# EAGLE library part PZ254V-12-12P_LCSC (library lcsc_parts)
Description: 2 2.54mm Pin Header 2.5mm Through Hole 6mm 12P -40℃~+105℃ 3mm Black 2x6P 2.54mm Through Hole,P=2.54mm Headers, Male Pins RoHS Manufacturer: XFCN MPN: PZ254V-12-12P LCSC Part: C492423 Category: Headers, Male Pins Datasheet: https://datasheet.lcsc.com/datasheet/pdf/50ec9710cee52ae98bff43fbb8887c5b.pdf?productCode=C492423
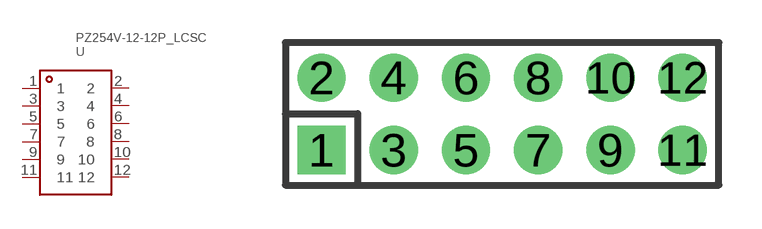
[diagram p8: symbol with the pads of HDR-TH_12P-P2.54-V-M-R2-C6-S2.54; footprint HDR-TH_12P-P2.54-V-M-R2-C6-S2.54]

Designator prefix U

## PZ254V-12-12P_LCSC (CATEGORY: Headers, Male Pins; CIRCLUAR_PINS_SQUARE_PINS: Pin Header; COLOR: Black; CONTACT_MATERIAL: Brass; DATASHEET: https://datasheet.lcsc.com/datasheet/pdf/50ec9710cee52ae98bff43fbb8887c5b.pdf?productCode=C492423; DESCRIPTION: 2 2.54mm Pin Header 2.5mm Through Hole 6mm 12P -40℃~+105℃ 3mm Black 2x6P 2.54mm Through Hole,P=2.54mm Headers, Male Pins RoHS; INSULATION_HEIGHT: 2.5mm; LCSC_PART: C492423; LCSC_STOCK: 36270; LENGTH_OF_END_CONNECTION_PIN: 3mm; LENGTH_OF_MATING_PIN: 6mm; MANUFACTURER: XFCN; MOUNTING_TYPE: Through Hole; MPN: PZ254V-12-12P; NUMBER_OF_PINS: 12P; NUMBER_OF_ROWS: 2; OPERATING_TEMPERATURE: -40℃~+105℃; PARTNO: PZ254V-12-12P; PIN_STRUCTURE: 2x6P; PITCH: 2.54mm; PRICING_1000: $0.0468/unit @ 1000; PRICING_50: $0.0763/unit @ 50; ROW_SPACING: 2.54mm)  [HDR-TH_12P-P2.54-V-M-R2-C6-S2.54]
1  1
2  2
3  3
4  4
5  5
6  6
7  7
8  8
9  9
10  10
11  11
12  12

## Footprint HDR-TH_12P-P2.54-V-M-R2-C6-S2.54 (pad centres in mm)
drill 1.1 pad 1.7 square: 1 -6.35,-1.27
drill 1.1 pad 1.7 round: 2 -6.35,1.27; 3 -3.81,-1.27; 4 -3.81,1.27; 5 -1.27,-1.27; 6 -1.27,1.27; 7 1.27,-1.27; 8 1.27,1.27; 9 3.81,-1.27; 10 3.81,1.27; 11 6.35,-1.27; 12 6.35,1.27